# Altium schematic symbol library Res.SchLib: 3 symbols
Pins are listed as number, name and electrical type; pins without a type are passive.

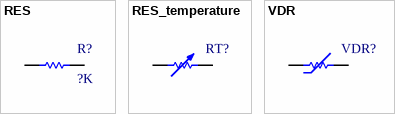
[diagram p0: symbols RES to VDR]

## RES
designator R?, comment ?K
footprint R0402
footprint R0603
footprint R0805
footprint R1206
footprint R2512
footprint R0201
footprint R1225
footprint R0612
pins: 1, 2

## RES_temperature
designator RT?
footprint R0402
footprint R0603
footprint R0805
footprint R1206
footprint R2512
pins: 1, 2

## VDR
designator VDR?
footprint RV14D
pins: 1, 2